# EAGLE library part MX-47219-2001 (library GasSensorCentral_v4.0)
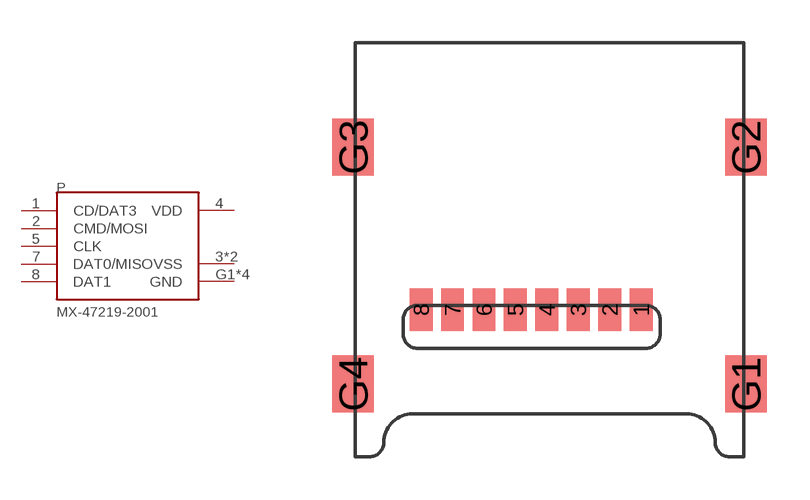
[diagram p6: symbol with the pads of MX-47219-2001; footprint MX-47219-2001]

Designator prefix P

## MX-47219-2001  [MX-47219-2001]
1  CD/DAT3
2  CMD/MOSI
3  VSS
4  VDD
5  CLK
6  VSS
7  DAT0/MISO
8  DAT1
G1  GND
G2  GND
G3  GND
G4  GND

## Footprint MX-47219-2001 (pad centres in mm)
smd 0.8 x 1.5: 1 10.08,2.6; 2 8.98,2.6; 3 7.88,2.6; 4 6.78,2.6; 5 5.68,2.6; 6 4.58,2.6; 7 3.48,2.6; 8 2.38,2.6
smd 1.45 x 2: G1 13.75,0; G2 13.75,8.3; G3 0,8.3; G4 0,0